# Altium footprint library 691 213 500 0xx.PcbLib: 3 footprints
Each footprint in its own frame and in the unit in brackets; x right, y up, seen from the top. Pads: shape width x height; smd on the part's side, far side on the other; paste and mask are expansions set on the pad; w line width, h text height; cw(c..) or ccw(c..) is an arc to the next point about the centre after c.
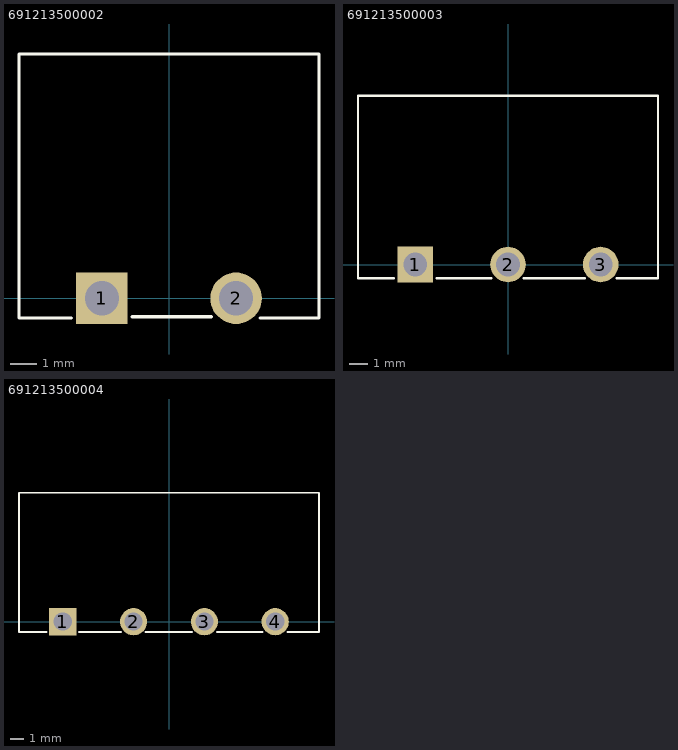
[diagram p0: the footprints below, top view; thin cyan lines are the x and y axes]

## 691213500002 [mm] "Serie 2135 - 5.08 mm _ 2 pins"
height 8.1
pads (2):
  rect 1.95x1.95 hole 1.3: 1(-2.54,0)
  round 1.95 hole 1.3: 2(2.54,0)
Top Overlay:
  lines w0.127: -3.7,-0.75 -5.68,-0.75 -5.68,9.25 5.68,9.25 5.68,-0.75 3.45,-0.75 ; -1.4,-0.7 1.6,-0.7
3D body: height 8.15, standoff -3.45, extent -5.68,-0.7 5.68,9.3

## 691213500003 [mm] "Serie 2135 - 5.08 mm_ 3 pins"
height 8.1
pads (3):
  rect 1.95x1.95 hole 1.3: 1(-5.08,0)
  round 1.95 hole 1.3: 2(0,0) 3(5.08,0)
Top Overlay:
  lines w0.127: -6.25,-0.75 -8.22,-0.75 -8.22,9.25 8.22,9.25 8.22,-0.75 5.95,-0.75 ; -3.9,-0.75 -0.9,-0.75 ; 0.85,-0.75 4.2,-0.75
3D body: height 8.15, standoff -3.45, extent -8.22,-0.75 8.22,9.25

## 691213500004 [mm] "Serie 2135 - 5.08 mm_ 4 pins"
height 8.1
pads (4):
  rect 1.95x1.95 hole 1.3: 1(-7.62,0)
  round 1.95 hole 1.3: 2(-2.54,0) 3(2.54,0) 4(7.62,0)
Top Overlay:
  lines w0.127: -10.76,-0.75 -10.76,9.25 10.76,9.25 10.76,-0.75 8.5,-0.75 ; -10.75,-0.75 -8.78,-0.75 ; -6.45,-0.75 -3.45,-0.75 ; -1.7,-0.75 1.65,-0.75 ; 3.45,-0.75 6.7,-0.75
3D body: height 8.15, standoff -3.45, extent -10.75,-0.75 10.77,9.25